# EAGLE library part HFR080RA (library 0CON_THOMAS_BETTS)
THOMAS&BETTS
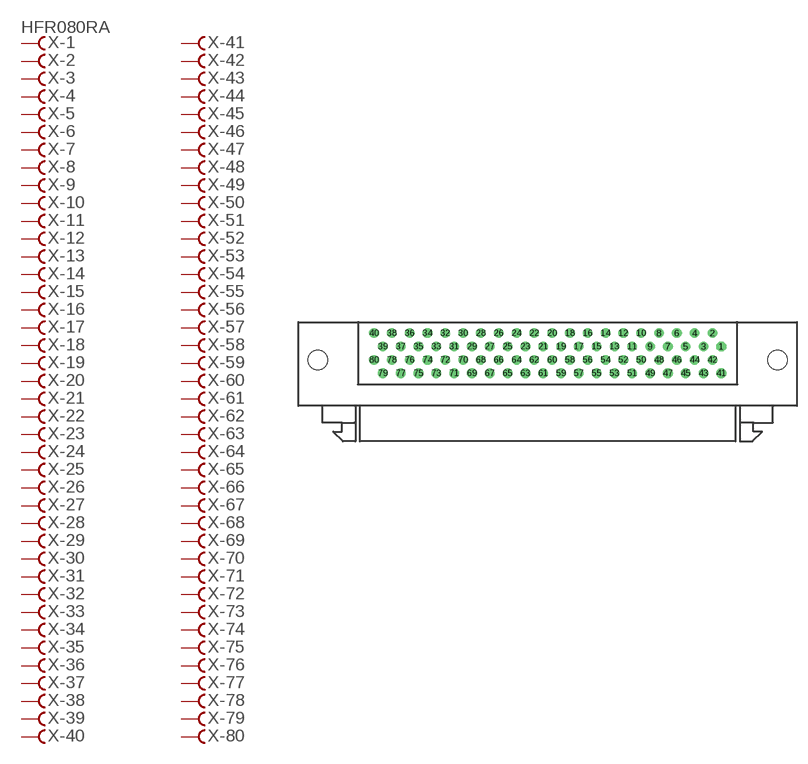
[diagram p3: symbol with the pads of HFR080RA; footprint HFR080RA]

Designator prefix X; gates -1=FV -2=F -3=F -4=F -5=F -6=F -7=F -8=F -9=F -10=F -11=F -12=F -13=F -14=F -15=F -16=F -17=F -18=F -19=F -20=F -21=F -22=F -23=F -24=F -25=F -26=F -27=F -28=F -29=F -30=F -31=F -32=F -33=F -34=F -35=F -36=F -37=F -38=F -39=F -40=F -42=F -43=F -44=F -45=F -46=F -47=F -48=F -49=F -50=F -51=F -52=F -53=F -54=F -55=F -56=F -57=F -58=F -59=F -60=F -61=F -62=F -63=F -64=F -65=F -66=F -67=F -68=F -69=F -70=F -71=F -72=F -73=F -74=F -75=F -76=F -77=F -78=F -79=F -80=F -41=F

## HFR080RA  [HFR080RA]
1  -1:F  pas
2  -2:F  pas
3  -3:F  pas
4  -4:F  pas
5  -5:F  pas
6  -6:F  pas
7  -7:F  pas
8  -8:F  pas
9  -9:F  pas
10  -10:F  pas
11  -11:F  pas
12  -12:F  pas
13  -13:F  pas
14  -14:F  pas
15  -15:F  pas
16  -16:F  pas
17  -17:F  pas
18  -18:F  pas
19  -19:F  pas
20  -20:F  pas
21  -21:F  pas
22  -22:F  pas
23  -23:F  pas
24  -24:F  pas
25  -25:F  pas
26  -26:F  pas
27  -27:F  pas
28  -28:F  pas
29  -29:F  pas
30  -30:F  pas
31  -31:F  pas
32  -32:F  pas
33  -33:F  pas
34  -34:F  pas
35  -35:F  pas
36  -36:F  pas
37  -37:F  pas
38  -38:F  pas
39  -39:F  pas
40  -40:F  pas
41  -41:F  pas
42  -42:F  pas
43  -43:F  pas
44  -44:F  pas
45  -45:F  pas
46  -46:F  pas
47  -47:F  pas
48  -48:F  pas
49  -49:F  pas
50  -50:F  pas
51  -51:F  pas
52  -52:F  pas
53  -53:F  pas
54  -54:F  pas
55  -55:F  pas
56  -56:F  pas
57  -57:F  pas
58  -58:F  pas
59  -59:F  pas
60  -60:F  pas
61  -61:F  pas
62  -62:F  pas
63  -63:F  pas
64  -64:F  pas
65  -65:F  pas
66  -66:F  pas
67  -67:F  pas
68  -68:F  pas
69  -69:F  pas
70  -70:F  pas
71  -71:F  pas
72  -72:F  pas
73  -73:F  pas
74  -74:F  pas
75  -75:F  pas
76  -76:F  pas
77  -77:F  pas
78  -78:F  pas
79  -79:F  pas
80  -80:F  pas

## Footprint HFR080RA (pad centres in mm)
THOMAS&BETTS
drill 0.864 octagon: 1 24.765,6.985
drill 0.864 round: 2 23.495,8.89; 3 22.225,6.985; 4 20.955,8.89; 5 19.685,6.985; 6 18.415,8.89; 7 17.145,6.985; 8 15.875,8.89; 9 14.605,6.985; 10 13.335,8.89; 11 12.065,6.985; 12 10.795,8.89; 13 9.525,6.985; 14 8.255,8.89; 15 6.985,6.985; 16 5.715,8.89; 17 4.445,6.985; 18 3.175,8.89; 19 1.905,6.985; 20 0.635,8.89; 21 -0.635,6.985; 22 -1.905,8.89; 23 -3.175,6.985; 24 -4.445,8.89; 25 -5.715,6.985; 26 -6.985,8.89; 27 -8.255,6.985; 28 -9.525,8.89; 29 -10.795,6.985; 30 -12.065,8.89; 31 -13.335,6.985; 32 -14.605,8.89; 33 -15.875,6.985; 34 -17.145,8.89; 35 -18.415,6.985; 36 -19.685,8.89; 37 -20.955,6.985; 38 -22.225,8.89; 39 -23.495,6.985; 40 -24.765,8.89; 41 24.765,3.175; 42 23.495,5.08; 43 22.225,3.175; 44 20.955,5.08; 45 19.685,3.175; 46 18.415,5.08; 47 17.145,3.175; 48 15.875,5.08; 49 14.605,3.175; 50 13.335,5.08; 51 12.065,3.175; 52 10.795,5.08; 53 9.525,3.175; 54 8.255,5.08; 55 6.985,3.175; 56 5.715,5.08; 57 4.445,3.175; 58 3.175,5.08; 59 1.905,3.175; 60 0.635,5.08; 61 -0.635,3.175; 62 -1.905,5.08; 63 -3.175,3.175; 64 -4.445,5.08; 65 -5.715,3.175; 66 -6.985,5.08; 67 -8.255,3.175; 68 -9.525,5.08; 69 -10.795,3.175; 70 -12.065,5.08; 71 -13.335,3.175; 72 -14.605,5.08; 73 -15.875,3.175; 74 -17.145,5.08; 75 -18.415,3.175; 76 -19.685,5.08; 77 -20.955,3.175; 78 -22.225,5.08; 79 -23.495,3.175; 80 -24.765,5.08
hole 2.769 at 32.766,5.08
hole 2.769 at -32.766,5.08